# EAGLE library part XR-2212 (library exar)
Precision PHASE-LOCKED LOOP
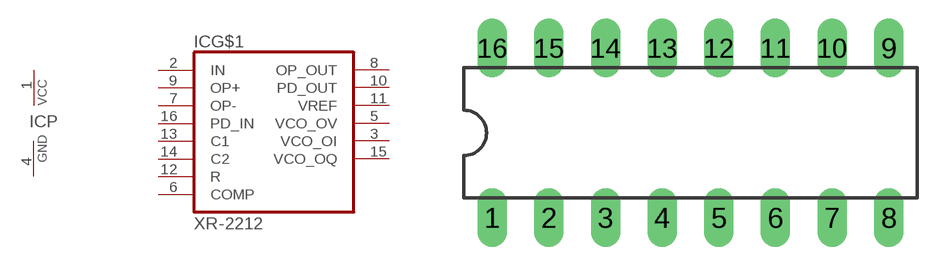
[diagram p7: symbol with the pads of DIL16; footprint DIL16]

Designator prefix IC; gates G$1=XR-2212 P=PWRN

## XR-2212 (OC_FARNELL: unknown; OC_NEWARK: unknown)  [DIL16]
1  P:VCC  pwr
2  G$1:IN  in
3  G$1:VCO_OI  out
4  P:GND  pwr
5  G$1:VCO_OV  out
6  G$1:COMP  in
7  G$1:OP-  in
8  G$1:OP_OUT  out
9  G$1:OP+  in
10  G$1:PD_OUT  out
11  G$1:VREF  out
12  G$1:R  in
13  G$1:C1  in
14  G$1:C2  in
15  G$1:VCO_OQ  out
16  G$1:PD_IN  in

## Footprint DIL16 (pad centres in mm)
Dual In Line Package
drill 0.813 long: 1 -8.89,-3.81; 2 -6.35,-3.81; 3 -3.81,-3.81; 4 -1.27,-3.81; 5 1.27,-3.81; 6 3.81,-3.81; 7 6.35,-3.81; 8 8.89,-3.81; 9 8.89,3.81; 10 6.35,3.81; 11 3.81,3.81; 12 1.27,3.81; 13 -1.27,3.81; 14 -3.81,3.81; 15 -6.35,3.81; 16 -8.89,3.81